# EAGLE library part DSPIC33F*02 (library microchip-dspic33)
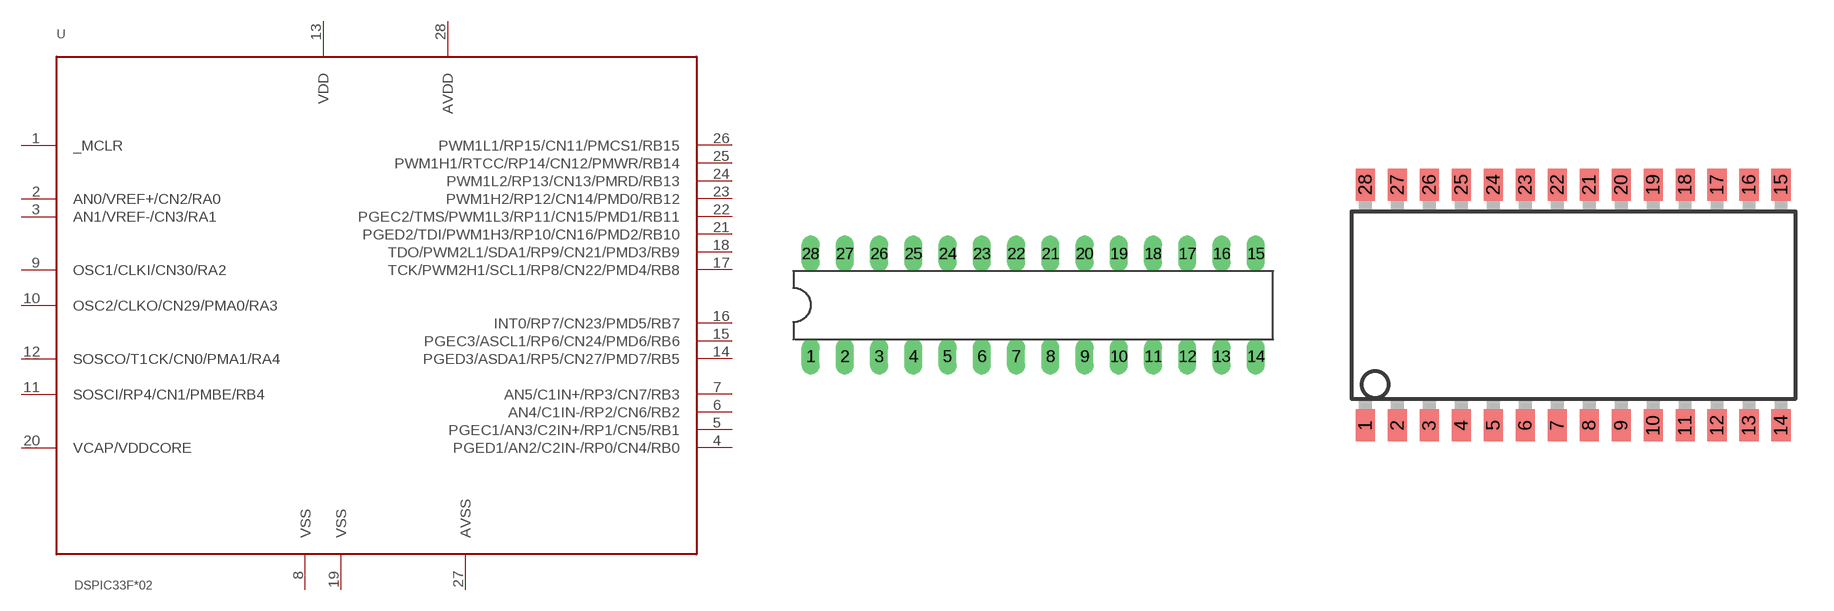
[diagram p1: symbol with the pads of DIL28-3; footprints DIL28-3, SO28W]

Designator prefix -

## DSPIC33FJ128MC202SP, DSPIC33FJ128MC802SP, DSPIC33FJ32MC302SP, DSPIC33FJ64MC202SP, DSPIC33FJ64MC802SP  [DIL28-3]
1  _MCLR  in
2  AN0/VREF+/CN2/RA0
3  AN1/VREF-/CN3/RA1
4  PGED1/AN2/C2IN-/RP0/CN4/RB0
5  PGEC1/AN3/C2IN+/RP1/CN5/RB1
6  AN4/C1IN-/RP2/CN6/RB2
7  AN5/C1IN+/RP3/CN7/RB3
8  VSS  pwr
9  OSC1/CLKI/CN30/RA2
10  OSC2/CLKO/CN29/PMA0/RA3
11  SOSCI/RP4/CN1/PMBE/RB4
12  SOSCO/T1CK/CN0/PMA1/RA4
13  VDD  pwr
14  PGED3/ASDA1/RP5/CN27/PMD7/RB5
15  PGEC3/ASCL1/RP6/CN24/PMD6/RB6
16  INT0/RP7/CN23/PMD5/RB7
17  TCK/PWM2H1/SCL1/RP8/CN22/PMD4/RB8
18  TDO/PWM2L1/SDA1/RP9/CN21/PMD3/RB9
19  VSS  pwr
20  VCAP/VDDCORE  pwr
21  PGED2/TDI/PWM1H3/RP10/CN16/PMD2/RB10
22  PGEC2/TMS/PWM1L3/RP11/CN15/PMD1/RB11
23  PWM1H2/RP12/CN14/PMD0/RB12
24  PWM1L2/RP13/CN13/PMRD/RB13
25  PWM1H1/RTCC/RP14/CN12/PMWR/RB14
26  PWM1L1/RP15/CN11/PMCS1/RB15
27  AVSS  pwr
28  AVDD  pwr

## DSPIC33FJ128MC202SO, DSPIC33FJ128MC802SO, DSPIC33FJ32MC302SO, DSPIC33FJ64MC202SO, DSPIC33FJ64MC802SO  [SO28W]
Pads as for DIL28-3

## Footprint DIL28-3 (pad centres in mm)
Dual In Line package type P
drill 0.813 long: 1 -16.51,-3.81; 2 -13.97,-3.81; 3 -11.43,-3.81; 4 -8.89,-3.81; 5 -6.35,-3.81; 6 -3.81,-3.81; 7 -1.27,-3.81; 8 1.27,-3.81; 9 3.81,-3.81; 10 6.35,-3.81; 11 8.89,-3.81; 12 11.43,-3.81; 13 13.97,-3.81; 14 16.51,-3.81; 15 16.51,3.81; 16 13.97,3.81; 17 11.43,3.81; 18 8.89,3.81; 19 6.35,3.81; 20 3.81,3.81; 21 1.27,3.81; 22 -1.27,3.81; 23 -3.81,3.81; 24 -6.35,3.81; 25 -8.89,3.81; 26 -11.43,3.81; 27 -13.97,3.81; 28 -16.51,3.81

## Footprint SO28W (pad centres in mm)
28-Lead Plastic Small Outline (SO) Wide, 300 mil Body (SOIC) Source: http://ww1.microchip.com/downloads/en/devicedoc/39632c.pdf
smd 0.762 x 1.27: 1 -7.62,-4.78; 2 -6.35,-4.78; 3 -5.08,-4.78; 4 -3.81,-4.78; 5 -2.54,-4.78; 6 -1.27,-4.78; 7 0,-4.78; 8 1.27,-4.78; 9 2.54,-4.78; 10 3.81,-4.78; 11 5.08,-4.78; 12 6.35,-4.78; 13 7.62,-4.78; 14 8.89,-4.78; 15 8.89,4.78; 16 7.62,4.78; 17 6.35,4.78; 18 5.08,4.78; 19 3.81,4.78; 20 2.54,4.78; 21 1.27,4.78; 22 0,4.78; 23 -1.27,4.78; 24 -2.54,4.78; 25 -3.81,4.78; 26 -5.08,4.78; 27 -6.35,4.78; 28 -7.62,4.78